# EAGLE library part VA-METER2 (library va_meter2)
Volt-Amp Meter
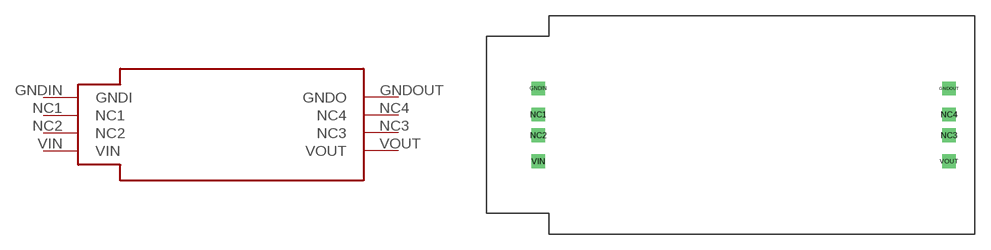
[diagram p0: symbol with the pads of VA_METER2; footprint VA_METER2]

Designator prefix X

## VA-METER2  [VA_METER2]
GNDIN  GNDI
GNDOUT  GNDO
NC1  NC1
NC2  NC2
NC3  NC3
NC4  NC4
VIN  VIN
VOUT  VOUT

## Footprint VA_METER2 (pad centres in mm)
drill 0.8 square: GNDIN 5,12; GNDOUT 44.5,12; NC1 5,9.5; NC2 5,7.5; NC3 44.5,7.5; NC4 44.5,9.5; VIN 5,5; VOUT 44.5,5